# Altium schematic symbol library Buzzer.SchLib: 1 symbol
Pins are listed as number, name and electrical type; pins without a type are passive.

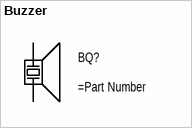
[diagram p0: symbol Buzzer]

## Buzzer
designator BQ?
pins: 1, 2